# EAGLE library part LPC122XFBD48 (library nxp_60_1_1)
NXP ARM M0 32 bit Microcontroller AAL Eindhoven MV+ MK
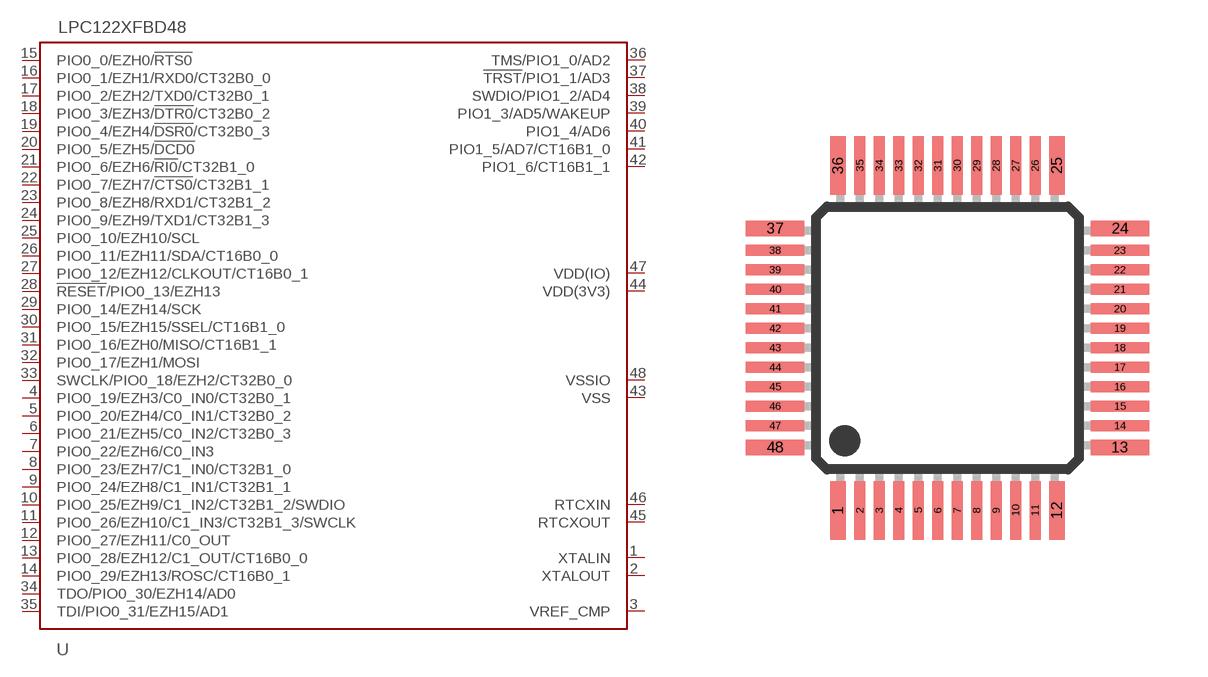
[diagram p4: symbol with the pads of SOT313-2; footprint SOT313-2]

Designator prefix U

## LPC122XFBD48  [SOT313-2]
1  XTALIN
2  XTALOUT
3  VREF_CMP
4  PIO0_19/EZH3/C0_IN0/CT32B0_1
5  PIO0_20/EZH4/C0_IN1/CT32B0_2
6  PIO0_21/EZH5/C0_IN2/CT32B0_3
7  PIO0_22/EZH6/C0_IN3
8  PIO0_23/EZH7/C1_IN0/CT32B1_0
9  PIO0_24/EZH8/C1_IN1/CT32B1_1
10  PIO0_25/EZH9/C1_IN2/CT32B1_2/SWDIO
11  PIO0_26/EZH10/C1_IN3/CT32B1_3/SWCLK
12  PIO0_27/EZH11/C0_OUT
13  PIO0_28/EZH12/C1_OUT/CT16B0_0
14  PIO0_29/EZH13/ROSC/CT16B0_1
15  PIO0_0/EZH0/!RTS0!
16  PIO0_1/EZH1/RXD0/CT32B0_0
17  PIO0_2/EZH2/TXD0/CT32B0_1
18  PIO0_3/EZH3/!DTR0!/CT32B0_2
19  PIO0_4/EZH4/!DSR0!/CT32B0_3
20  PIO0_5/EZH5/!DCD0!
21  PIO0_6/EZH6/!RI0!/CT32B1_0
22  PIO0_7/EZH7/!CTS0!/CT32B1_1
23  PIO0_8/EZH8/RXD1/CT32B1_2
24  PIO0_9/EZH9/TXD1/CT32B1_3
25  PIO0_10/EZH10/SCL
26  PIO0_11/EZH11/SDA/CT16B0_0
27  PIO0_12/EZH12/CLKOUT/CT16B0_1
28  !RESET!/PIO0_13/EZH13
29  PIO0_14/EZH14/SCK
30  PIO0_15/EZH15/SSEL/CT16B1_0
31  PIO0_16/EZH0/MISO/CT16B1_1
32  PIO0_17/EZH1/MOSI
33  SWCLK/PIO0_18/EZH2/CT32B0_0
34  TDO/PIO0_30/EZH14/AD0
35  TDI/PIO0_31/EZH15/AD1
36  TMS/PIO1_0/AD2
37  !TRST!/PIO1_1/AD3
38  SWDIO/PIO1_2/AD4
39  PIO1_3/AD5/WAKEUP
40  PIO1_4/AD6
41  PIO1_5/AD7/CT16B1_0
42  PIO1_6/CT16B1_1
43  VSS  pwr
44  VDD(3V3)  pwr
45  RTCXOUT
46  RTCXIN
47  VDD(IO)  pwr
48  VSSIO  pwr

## Footprint SOT313-2 (pad centres in mm)
SOT313-2 LQFP48: plastic low profile quad flat package; 48 leads; body 7 x 7 x 1.4 mm JEDEC: MS-026 IEC: 136E05 Footprint according to NXP SOT313-2 specification, however the cornerpins are 0.4mm in stead of 0.5mm. Probably an error in the specification.
smd 0.4 x 1.5: 1 -2.81,-4.425; 12 2.81,-4.425; 25 2.81,4.425; 36 -2.81,4.425
smd 0.28 x 1.5: 2 -2.25,-4.425; 3 -1.75,-4.425; 4 -1.25,-4.425; 5 -0.75,-4.425; 6 -0.25,-4.425; 7 0.25,-4.425; 8 0.75,-4.425; 9 1.25,-4.425; 10 1.75,-4.425; 11 2.25,-4.425; 26 2.25,4.425; 27 1.75,4.425; 28 1.25,4.425; 29 0.75,4.425; 30 0.25,4.425; 31 -0.25,4.425; 32 -0.75,4.425; 33 -1.25,4.425; 34 -1.75,4.425; 35 -2.25,4.425
smd 1.5 x 0.4: 13 4.425,-2.81; 24 4.425,2.81; 37 -4.425,2.81; 48 -4.425,-2.81
smd 1.5 x 0.28: 14 4.425,-2.25; 15 4.425,-1.75; 16 4.425,-1.25; 17 4.425,-0.75; 18 4.425,-0.25; 19 4.425,0.25; 20 4.425,0.75; 21 4.425,1.25; 22 4.425,1.75; 23 4.425,2.25; 38 -4.425,2.25; 39 -4.425,1.75; 40 -4.425,1.25; 41 -4.425,0.75; 42 -4.425,0.25; 43 -4.425,-0.25; 44 -4.425,-0.75; 45 -4.425,-1.25; 46 -4.425,-1.75; 47 -4.425,-2.25